# Altium schematic symbol library Female Header.SchLib: 61 symbols
Pins are listed as number, name and electrical type; pins without a type are passive.

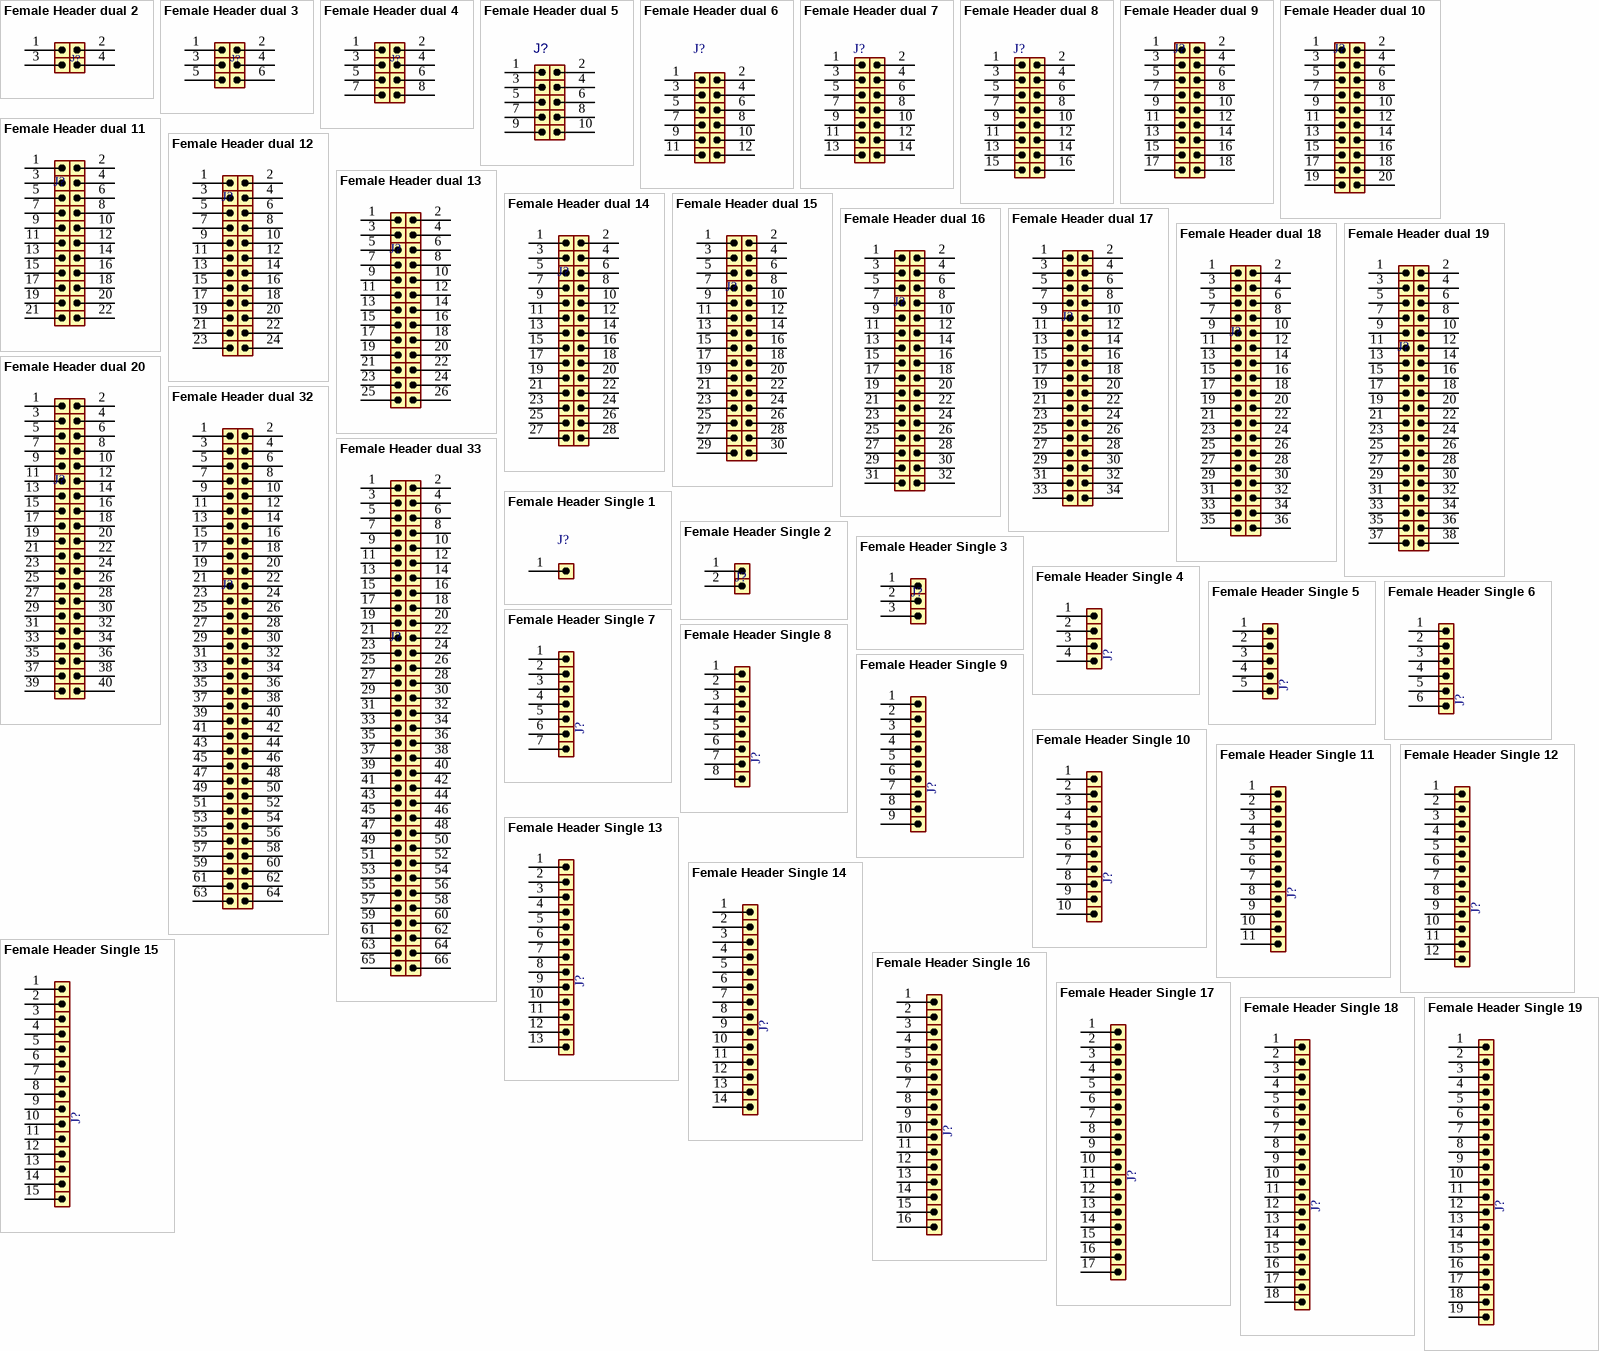
[diagram p0: symbols Female Header dual 2 to Female Header Single 19]

## Female Header dual 2
designator J?
Female, pitch: 2.54mm; DatasheetVersion: 2022
footprint HDR_F_2X2 (Connector; Header; 2x2 Position)
pins: 1, 2, 3, 4

## Female Header dual 3
designator J?
Female, pitch: 2.54mm; DatasheetVersion: 2022
footprint HDR_F_2X3 (Connector; Header; 3x2 Position)
pins: 1, 2, 3, 4, 5, 6

## Female Header dual 4
designator J?
Female, pitch: 2.54mm; DatasheetVersion: 2022
footprint HDR_F_2X4 (Connector; Header; 4x2 Position)
pins: 1, 2, 3, 4, 5, 6, 7, 8

## Female Header dual 5
designator J?
Female, pitch: 2.54mm; DatasheetVersion: 2022
footprint HDR_F_2X5 (Connector; Header; 5x2 Position)
pins: 1, 2, 3, 4, 5, 6, 7, 8, 9, 10

## Female Header dual 6
designator J?
Female, pitch: 2.54mm; DatasheetVersion: 2022
footprint HDR_F_2X6 (Connector; Header; 6x2 Position)
pins: 1, 2, 3, 4, 5, 6, 7, 8, 9, 10, 11, 12

## Female Header dual 7
designator J?
Female, pitch: 2.54mm; DatasheetVersion: 2022
footprint HDR_F_2X7 (Connector; Header; 7x2 Position)
pins: 1, 2, 3, 4, 5, 6, 7, 8, 9, 10, 11, 12, 13, 14

## Female Header dual 8
designator J?
Female, pitch: 2.54mm; DatasheetVersion: 2022
footprint HDR_F_2X8 (Connector; Header; 8x2 Position)
pins: 1, 2, 3, 4, 5, 6, 7, 8, 9, 10, 11, 12, 13, 14, 15, 16

## Female Header dual 9
designator J?
Female, pitch: 2.54mm; DatasheetVersion: 2022
footprint HDR_F_2X9 (Connector; Header; 9x2 Position)
pins: 1, 2, 3, 4, 5, 6, 7, 8, 9, 10, 11, 12, 13, 14, 15, 16, 17, 18

## Female Header dual 10
designator J?
Female, pitch: 2.54mm; DatasheetVersion: 2022
footprint HDR_F_2X10 (Connector; Header; 10x2 Position)
pins: 1, 2, 3, 4, 5, 6, 7, 8, 9, 10, 11, 12, 13, 14, 15, 16, 17, 18, 19, 20

## Female Header dual 11
designator J?
Female, pitch: 2.54mm; DatasheetVersion: 2022
footprint HDR_F_2X11 (Connector; Header; 11x2 Position)
pins: 1, 2, 3, 4, 5, 6, 7, 8, 9, 10, 11, 12, 13, 14, 15, 16, 17, 18, 19, 20, 21, 22

## Female Header dual 12
designator J?
Female, pitch: 2.54mm; DatasheetVersion: 2022
footprint HDR_F_2X12 (Connector; Header; 12x2 Position)
pins: 1, 2, 3, 4, 5, 6, 7, 8, 9, 10, 11, 12, 13, 14, 15, 16, 17, 18, 19, 20, 21, 22, 23, 24

## Female Header dual 13
designator J?
Female, pitch: 2.54mm; DatasheetVersion: 2022
footprint HDR_F_2X13 (Connector; Header; 13x2 Position)
pins: 1, 2, 3, 4, 5, 6, 7, 8, 9, 10, 11, 12, 13, 14, 15, 16, 17, 18, 19, 20, 21, 22, 23, 24, 25, 26

## Female Header dual 14
designator J?
Female, pitch: 2.54mm; DatasheetVersion: 2022
footprint HDR_F_2X14 (Connector; Header; 14x2 Position)
pins: 1, 2, 3, 4, 5, 6, 7, 8, 9, 10, 11, 12, 13, 14, 15, 16, 17, 18, 19, 20, 21, 22, 23, 24, 25, 26, 27, 28

## Female Header dual 15
designator J?
Female, pitch: 2.54mm; DatasheetVersion: 2022
footprint HDR_F_2X15 (Connector; Header; 15x2 Position)
pins: 1, 2, 3, 4, 5, 6, 7, 8, 9, 10, 11, 12, 13, 14, 15, 16, 17, 18, 19, 20, 21, 22, 23, 24, 25, 26, 27, 28, 29, 30

## Female Header dual 16
designator J?
Female, pitch: 2.54mm; DatasheetVersion: 2022
footprint HDR_F_2X16 (Connector; Header; 16x2 Position)
pins: 1, 2, 3, 4, 5, 6, 7, 8, 9, 10, 11, 12, 13, 14, 15, 16, 17, 18, 19, 20, 21, 22, 23, 24, 25, 26, 27, 28, 29, 30, 31, 32

## Female Header dual 17
designator J?
Female, pitch: 2.54mm; DatasheetVersion: 2022
footprint HDR_F_2X17 (Connector; Header; 17x2 Position)
pins: 1, 2, 3, 4, 5, 6, 7, 8, 9, 10, 11, 12, 13, 14, 15, 16, 17, 18, 19, 20, 21, 22, 23, 24, 25, 26, 27, 28, 29, 30, 31, 32, 33, 34

## Female Header dual 18
designator J?
Female, pitch: 2.54mm; DatasheetVersion: 2022
footprint HDR_F_2X18 (Connector; Header; 18x2 Position)
pins: 1, 2, 3, 4, 5, 6, 7, 8, 9, 10, 11, 12, 13, 14, 15, 16, 17, 18, 19, 20, 21, 22, 23, 24, 25, 26, 27, 28, 29, 30, 31, 32, 33, 34, 35, 36

## Female Header dual 19
designator J?
Female, pitch: 2.54mm; DatasheetVersion: 2022
footprint HDR_F_2X19 (Connector; Header; 19x2 Position)
pins: 1, 2, 3, 4, 5, 6, 7, 8, 9, 10, 11, 12, 13, 14, 15, 16, 17, 18, 19, 20, 21, 22, 23, 24, 25, 26, 27, 28, 29, 30, 31, 32, 33, 34, 35, 36, 37, 38

## Female Header dual 20
designator J?
Female, pitch: 2.54mm; DatasheetVersion: 2022
footprint HDR_F_2X20 (Connector; Header; 20x2 Position)
pins: 1, 2, 3, 4, 5, 6, 7, 8, 9, 10, 11, 12, 13, 14, 15, 16, 17, 18, 19, 20, 21, 22, 23, 24, 25, 26, 27, 28, 29, 30, 31, 32, 33, 34, 35, 36, 37, 38, 39, 40

## Female Header dual 32
designator J?
Female, pitch: 2.54mm; DatasheetVersion: 2022
footprint HDR_F_2X32 (Male Header 2X32 with 2.54 mm Pitch)
pins: 1, 2, 3, 4, 5, 6, 7, 8, 9, 10, 11, 12, 13, 14, 15, 16, 17, 18, 19, 20, 21, 22, 23, 24, 25, 26, 27, 28, 29, 30, 31, 32, 33, 34, 35, 36, 37, 38, 39, 40, 41, 42, 43, 44, 45, 46, 47, 48, 49, 50, 51, 52, 53, 54, 55, 56, 57, 58, 59, 60, 61, 62, 63, 64

## Female Header dual 33
designator J?
Female, pitch: 2.54mm; DatasheetVersion: 2022
footprint HDR_F_2X33 (Male Header 2X32 with 2.54 mm Pitch)
pins: 1, 2, 3, 4, 5, 6, 7, 8, 9, 10, 11, 12, 13, 14, 15, 16, 17, 18, 19, 20, 21, 22, 23, 24, 25, 26, 27, 28, 29, 30, 31, 32, 33, 34, 35, 36, 37, 38, 39, 40, 41, 42, 43, 44, 45, 46, 47, 48, 49, 50, 51, 52, 53, 54, 55, 56, 57, 58, 59, 60, 61, 62, 63, 64, 65, 66

## Female Header Single 1
designator J?
Female, pitch: 2.54mm; DatasheetVersion: 2022
footprint HDR_F_1 (Connector; Header; 1 Position)
pins: 1

## Female Header Single 2
designator J?
Female, pitch: 2.54mm; DatasheetVersion: 2022
footprint HDR_F_1X2 (HEADER FEMALE pitch: 2.54mm)
pins: 1, 2

## Female Header Single 3
designator J?
Female, pitch: 2.54mm; DatasheetVersion: 2022
footprint HDR_F_1X3 (HEADER FEMALE pitch: 2.54mm)
pins: 1, 2, 3

## Female Header Single 4
designator J?
Female, pitch: 2.54mm; DatasheetVersion: 2022
footprint HDR_F_1X4 (HEADER FEMALE pitch: 2.54mm)
pins: 1, 2, 3, 4

## Female Header Single 5
designator J?
Female, pitch: 2.54mm; DatasheetVersion: 2022
footprint HDR_F_1X5 (HEADER FEMALE pitch: 2.54mm)
pins: 1, 2, 3, 4, 5

## Female Header Single 6
designator J?
Female, pitch: 2.54mm; DatasheetVersion: 2022
footprint HDR_F_1X6 (HEADER FEMALE pitch: 2.54mm)
pins: 1, 2, 3, 4, 5, 6

## Female Header Single 7
designator J?
Female, pitch: 2.54mm; DatasheetVersion: 2022
footprint HDR_F_1X7 (HEADER FEMALE pitch: 2.54mm)
pins: 1, 2, 3, 4, 5, 6, 7

## Female Header Single 8
designator J?
Female, pitch: 2.54mm; DatasheetVersion: 2022
footprint HDR_F_1X8 (HEADER FEMALE pitch: 2.54mm)
pins: 1, 2, 3, 4, 5, 6, 7, 8

## Female Header Single 9
designator J?
Female, pitch: 2.54mm; DatasheetVersion: 2022
footprint HDR_F_1X9 (HEADER FEMALE pitch: 2.54mm)
pins: 1, 2, 3, 4, 5, 6, 7, 8, 9

## Female Header Single 10
designator J?
Female, pitch: 2.54mm; DatasheetVersion: 2022
footprint HDR_F_1X10 (HEADER FEMALE pitch: 2.54mm)
pins: 1, 2, 3, 4, 5, 6, 7, 8, 9, 10

## Female Header Single 11
designator J?
Female, pitch: 2.54mm; DatasheetVersion: 2022
footprint HDR_F_1X11 (Connector; Header; 11 Position)
pins: 1, 2, 3, 4, 5, 6, 7, 8, 9, 10, 11

## Female Header Single 12
designator J?
Female, pitch: 2.54mm; DatasheetVersion: 2022
footprint HDR_F_1X12 (Connector; Header; 12 Position)
pins: 1, 2, 3, 4, 5, 6, 7, 8, 9, 10, 11, 12

## Female Header Single 13
designator J?
Female, pitch: 2.54mm; DatasheetVersion: 2022
footprint HDR_F_1X13 (Connector; Header; 13 Position)
pins: 1, 2, 3, 4, 5, 6, 7, 8, 9, 10, 11, 12, 13

## Female Header Single 14
designator J?
Female, pitch: 2.54mm; DatasheetVersion: 2022
footprint HDR_F_1X14 (Connector; Header; 14 Position)
pins: 1, 2, 3, 4, 5, 6, 7, 8, 9, 10, 11, 12, 13, 14

## Female Header Single 15
designator J?
Female, pitch: 2.54mm; DatasheetVersion: 2022
footprint HDR_F_1X15 (Connector; Header; 15 Position)
pins: 1, 2, 3, 4, 5, 6, 7, 8, 9, 10, 11, 12, 13, 14, 15

## Female Header Single 16
designator J?
Female, pitch: 2.54mm; DatasheetVersion: 2022
footprint HDR_F_1X16 (Connector; Header; 16 Position)
pins: 1, 2, 3, 4, 5, 6, 7, 8, 9, 10, 11, 12, 13, 14, 15, 16

## Female Header Single 17
designator J?
Female, pitch: 2.54mm; DatasheetVersion: 2022
footprint HDR_F_1X17 (Connector; Header; 17 Position)
pins: 1, 2, 3, 4, 5, 6, 7, 8, 9, 10, 11, 12, 13, 14, 15, 16, 17

## Female Header Single 18
designator J?
Female, pitch: 2.54mm; DatasheetVersion: 2022
footprint HDR_F_1X18 (Connector; Header; 18 Position)
pins: 1, 2, 3, 4, 5, 6, 7, 8, 9, 10, 11, 12, 13, 14, 15, 16, 17, 18

## Female Header Single 19
designator J?
Female, pitch: 2.54mm; DatasheetVersion: 2022
footprint HDR_F_1X19
pins: 1, 2, 3, 4, 5, 6, 7, 8, 9, 10, 11, 12, 13, 14, 15, 16, 17, 18, 19

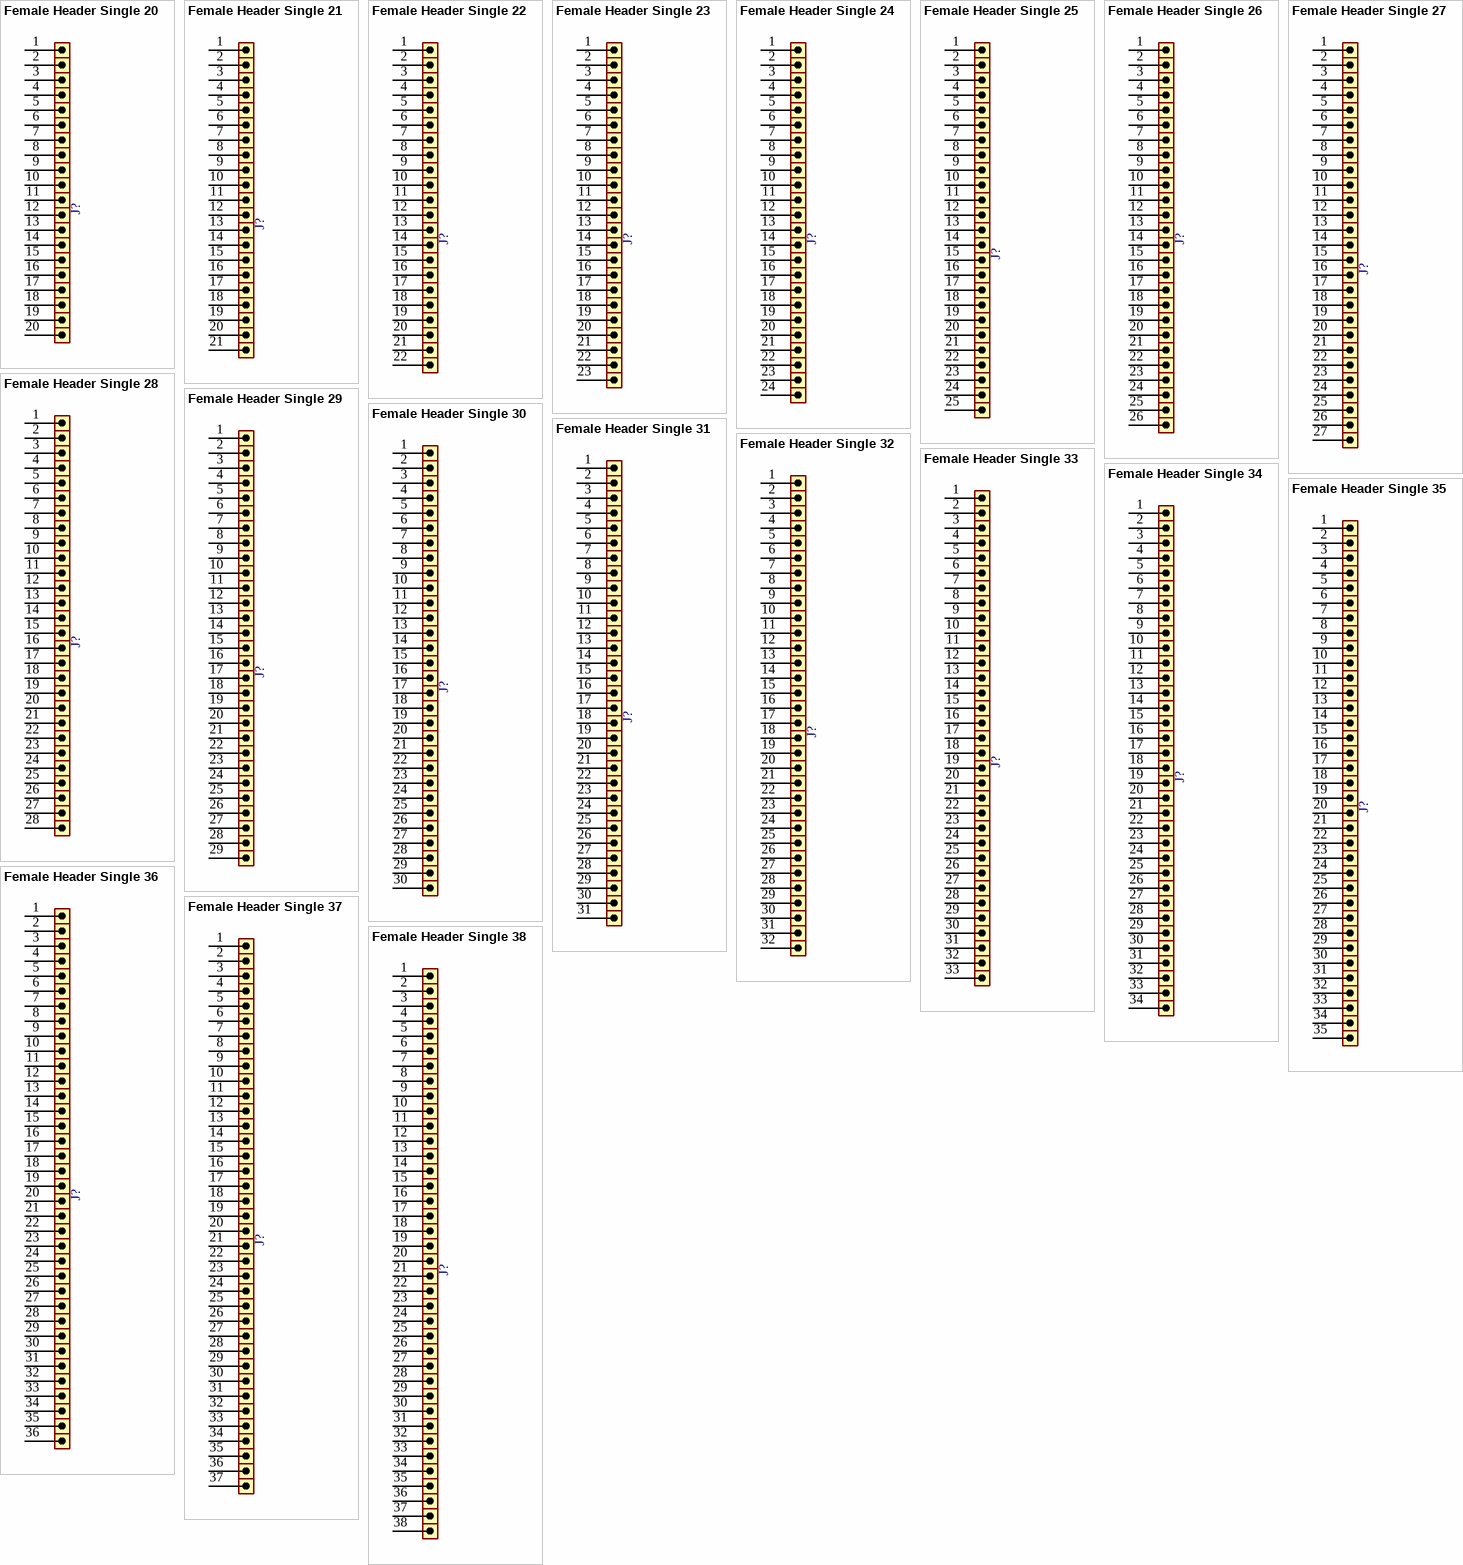
[diagram p1: symbols Female Header Single 20 to Female Header Single 38]

## Female Header Single 20
designator J?
Female, pitch: 2.54mm; DatasheetVersion: 2022
footprint HDR_F_1X20 (Connector; Header; 20 Position)
pins: 1, 2, 3, 4, 5, 6, 7, 8, 9, 10, 11, 12, 13, 14, 15, 16, 17, 18, 19, 20

## Female Header Single 21
designator J?
Female, pitch: 2.54mm; DatasheetVersion: 2022
footprint HDR_F_1X21 (Connector; Header; 21 Position)
pins: 1, 2, 3, 4, 5, 6, 7, 8, 9, 10, 11, 12, 13, 14, 15, 16, 17, 18, 19, 20, 21

## Female Header Single 22
designator J?
Female, pitch: 2.54mm; DatasheetVersion: 2022
footprint HDR_F_1X22 (Connector; Header; 22 Position)
pins: 1, 2, 3, 4, 5, 6, 7, 8, 9, 10, 11, 12, 13, 14, 15, 16, 17, 18, 19, 20, 21, 22

## Female Header Single 23
designator J?
Female, pitch: 2.54mm; DatasheetVersion: 2022
footprint HDR_F_1X23 (Connector; Header; 23 Position)
pins: 1, 2, 3, 4, 5, 6, 7, 8, 9, 10, 11, 12, 13, 14, 15, 16, 17, 18, 19, 20, 21, 22, 23

## Female Header Single 24
designator J?
Female, pitch: 2.54mm; DatasheetVersion: 2022
footprint HDR_F_1X24 (Connector; Header; 24 Position)
pins: 1, 2, 3, 4, 5, 6, 7, 8, 9, 10, 11, 12, 13, 14, 15, 16, 17, 18, 19, 20, 21, 22, 23, 24

## Female Header Single 25
designator J?
Female, pitch: 2.54mm; DatasheetVersion: 2022
footprint HDR_F_1X25 (Connector; Header; 25 Position)
pins: 1, 2, 3, 4, 5, 6, 7, 8, 9, 10, 11, 12, 13, 14, 15, 16, 17, 18, 19, 20, 21, 22, 23, 24, 25

## Female Header Single 26
designator J?
Female, pitch: 2.54mm; DatasheetVersion: 2022
footprint HDR_F_1X26 (Connector; Header; 26 Position)
pins: 1, 2, 3, 4, 5, 6, 7, 8, 9, 10, 11, 12, 13, 14, 15, 16, 17, 18, 19, 20, 21, 22, 23, 24, 25, 26

## Female Header Single 27
designator J?
Female, pitch: 2.54mm; DatasheetVersion: 2022
footprint HDR_F_1X27 (Connector; Header; 27 Position)
pins: 1, 2, 3, 4, 5, 6, 7, 8, 9, 10, 11, 12, 13, 14, 15, 16, 17, 18, 19, 20, 21, 22, 23, 24, 25, 26, 27

## Female Header Single 28
designator J?
Female, pitch: 2.54mm; DatasheetVersion: 2022
footprint HDR_F_1X28 (Connector; Header; 28 Position)
pins: 1, 2, 3, 4, 5, 6, 7, 8, 9, 10, 11, 12, 13, 14, 15, 16, 17, 18, 19, 20, 21, 22, 23, 24, 25, 26, 27, 28

## Female Header Single 29
designator J?
Female, pitch: 2.54mm; DatasheetVersion: 2022
footprint HDR_F_1X29 (Connector; Header; 29 Position)
pins: 1, 2, 3, 4, 5, 6, 7, 8, 9, 10, 11, 12, 13, 14, 15, 16, 17, 18, 19, 20, 21, 22, 23, 24, 25, 26, 27, 28, 29

## Female Header Single 30
designator J?
Female, pitch: 2.54mm; DatasheetVersion: 2022
footprint HDR_F_1X30 (Connector; Header; 30 Position)
pins: 1, 2, 3, 4, 5, 6, 7, 8, 9, 10, 11, 12, 13, 14, 15, 16, 17, 18, 19, 20, 21, 22, 23, 24, 25, 26, 27, 28, 29, 30

## Female Header Single 31
designator J?
Female, pitch: 2.54mm; DatasheetVersion: 2022
footprint HDR_F_1X31 (Connector; Header; 31 Position)
pins: 1, 2, 3, 4, 5, 6, 7, 8, 9, 10, 11, 12, 13, 14, 15, 16, 17, 18, 19, 20, 21, 22, 23, 24, 25, 26, 27, 28, 29, 30, 31

## Female Header Single 32
designator J?
Female, pitch: 2.54mm; DatasheetVersion: 2022
footprint HDR_F_1X32 (Connector; Header; 32 Position)
pins: 1, 2, 3, 4, 5, 6, 7, 8, 9, 10, 11, 12, 13, 14, 15, 16, 17, 18, 19, 20, 21, 22, 23, 24, 25, 26, 27, 28, 29, 30, 31, 32

## Female Header Single 33
designator J?
Female, pitch: 2.54mm; DatasheetVersion: 2022
footprint HDR_F_1X33 (Connector; Header; 33 Position)
pins: 1, 2, 3, 4, 5, 6, 7, 8, 9, 10, 11, 12, 13, 14, 15, 16, 17, 18, 19, 20, 21, 22, 23, 24, 25, 26, 27, 28, 29, 30, 31, 32, 33

## Female Header Single 34
designator J?
Female, pitch: 2.54mm; DatasheetVersion: 2022
footprint HDR_F_1X34 (Connector; Header; 34 Position)
pins: 1, 2, 3, 4, 5, 6, 7, 8, 9, 10, 11, 12, 13, 14, 15, 16, 17, 18, 19, 20, 21, 22, 23, 24, 25, 26, 27, 28, 29, 30, 31, 32, 33, 34

## Female Header Single 35
designator J?
Female, pitch: 2.54mm; DatasheetVersion: 2022
footprint HDR_F_1X35 (Connector; Header; 35 Position)
pins: 1, 2, 3, 4, 5, 6, 7, 8, 9, 10, 11, 12, 13, 14, 15, 16, 17, 18, 19, 20, 21, 22, 23, 24, 25, 26, 27, 28, 29, 30, 31, 32, 33, 34, 35

## Female Header Single 36
designator J?
Female, pitch: 2.54mm; DatasheetVersion: 2022
footprint HDR_F_1X36 (Connector; Header; 36 Position)
pins: 1, 2, 3, 4, 5, 6, 7, 8, 9, 10, 11, 12, 13, 14, 15, 16, 17, 18, 19, 20, 21, 22, 23, 24, 25, 26, 27, 28, 29, 30, 31, 32, 33, 34, 35, 36

## Female Header Single 37
designator J?
Female, pitch: 2.54mm; DatasheetVersion: 2022
footprint HDR_F_1X37 (Connector; Header; 37 Position)
pins: 1, 2, 3, 4, 5, 6, 7, 8, 9, 10, 11, 12, 13, 14, 15, 16, 17, 18, 19, 20, 21, 22, 23, 24, 25, 26, 27, 28, 29, 30, 31, 32, 33, 34, 35, 36, 37

## Female Header Single 38
designator J?
Female, pitch: 2.54mm; DatasheetVersion: 2022
footprint HDR_F_1X38 (Connector; Header; 38 Position)
pins: 1, 2, 3, 4, 5, 6, 7, 8, 9, 10, 11, 12, 13, 14, 15, 16, 17, 18, 19, 20, 21, 22, 23, 24, 25, 26, 27, 28, 29, 30, 31, 32, 33, 34, 35, 36, 37, 38

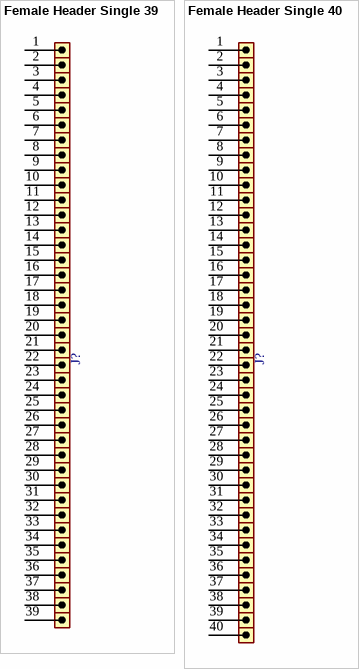
[diagram p2: symbols Female Header Single 39 to Female Header Single 40]

## Female Header Single 39
designator J?
Female, pitch: 2.54mm; DatasheetVersion: 2022
footprint HDR_F_1X39 (Connector; Header; 39 Position)
pins: 1, 2, 3, 4, 5, 6, 7, 8, 9, 10, 11, 12, 13, 14, 15, 16, 17, 18, 19, 20, 21, 22, 23, 24, 25, 26, 27, 28, 29, 30, 31, 32, 33, 34, 35, 36, 37, 38, 39

## Female Header Single 40
designator J?
Female, pitch: 2.54mm; DatasheetVersion: 2022
footprint HDR_F_1X40 (Connector; Header; 40 Position)
pins: 1, 2, 3, 4, 5, 6, 7, 8, 9, 10, 11, 12, 13, 14, 15, 16, 17, 18, 19, 20, 21, 22, 23, 24, 25, 26, 27, 28, 29, 30, 31, 32, 33, 34, 35, 36, 37, 38, 39, 40